# EAGLE library part USB-A2VSW6 (library ruark2)
USB - A, 2x Stacked Receptacle Connector 8 Position Through Hole Verticle
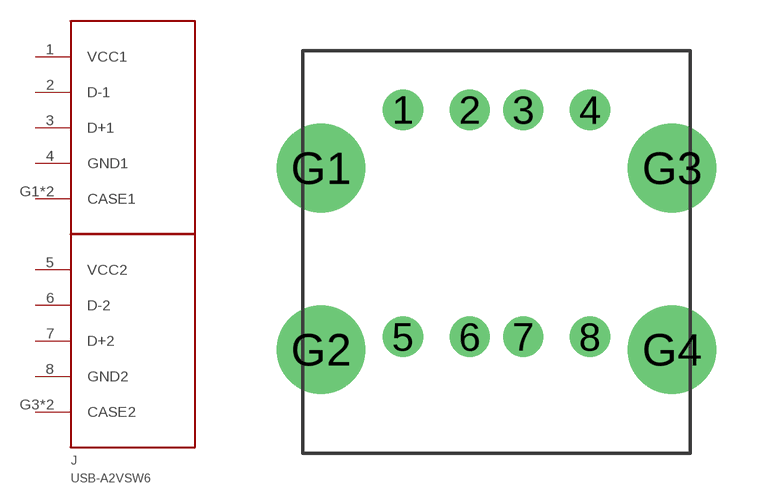
[diagram p74: symbol with the pads of VERT2XUSB; footprint VERT2XUSB]

Designator prefix J

## USB-A2VSW6 (PARTNO: ED2984-ND)  [VERT2XUSB]
1  VCC1
2  D-1
3  D+1
4  GND1
5  VCC2
6  D-2
7  D+2
8  GND2
G1  CASE1
G2  CASE1
G3  CASE2
G4  CASE2

## Footprint VERT2XUSB (pad centres in mm)
drill 1: 1 -3.5,5.58; 2 -1,5.58; 3 1,5.58; 4 3.5,5.58; 5 -3.5,-2.92; 6 -1,-2.92; 7 1,-2.92; 8 3.5,-2.92
drill 2.3: G1 -6.57,3.4; G2 -6.57,-3.4; G3 6.57,3.4; G4 6.57,-3.4